# EAGLE library part MAX-M10S (library GNSS-MAX)
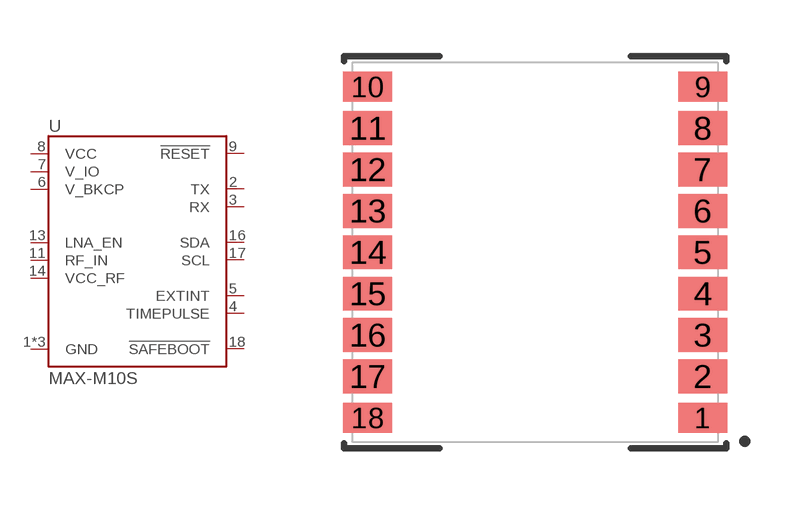
[diagram p0: symbol with the pads of MAX-M10S; footprint MAX-M10S]

Designator prefix U

## MAX-M10S (PROD_ID: IC-15926)  [MAX-M10S]
1  GND
2  TX
3  RX
4  TIMEPULSE
5  EXTINT
6  V_BKCP
7  V_IO
8  VCC
9  !RESET!
10  GND
11  RF_IN
12  GND
13  LNA_EN
14  VCC_RF
16  SDA
17  SCL
18  !SAFEBOOT!

## Footprint MAX-M10S (pad centres in mm)
smd 1.3 x 0.8: 1 4.45,-4.4; 9 4.45,4.4; 10 -4.45,4.4; 18 -4.45,-4.4
smd 1.3 x 0.9: 2 4.45,-3.3; 3 4.45,-2.2; 4 4.45,-1.1; 5 4.45,0; 6 4.45,1.1; 7 4.45,2.2; 8 4.45,3.3; 11 -4.45,3.3; 12 -4.45,2.2; 13 -4.45,1.1; 14 -4.45,0; 15 -4.45,-1.1; 16 -4.45,-2.2; 17 -4.45,-3.3